# Altium schematic symbol library Schlib.SchLib: 32 symbols
Pins are listed as number, name and electrical type; pins without a type are passive.

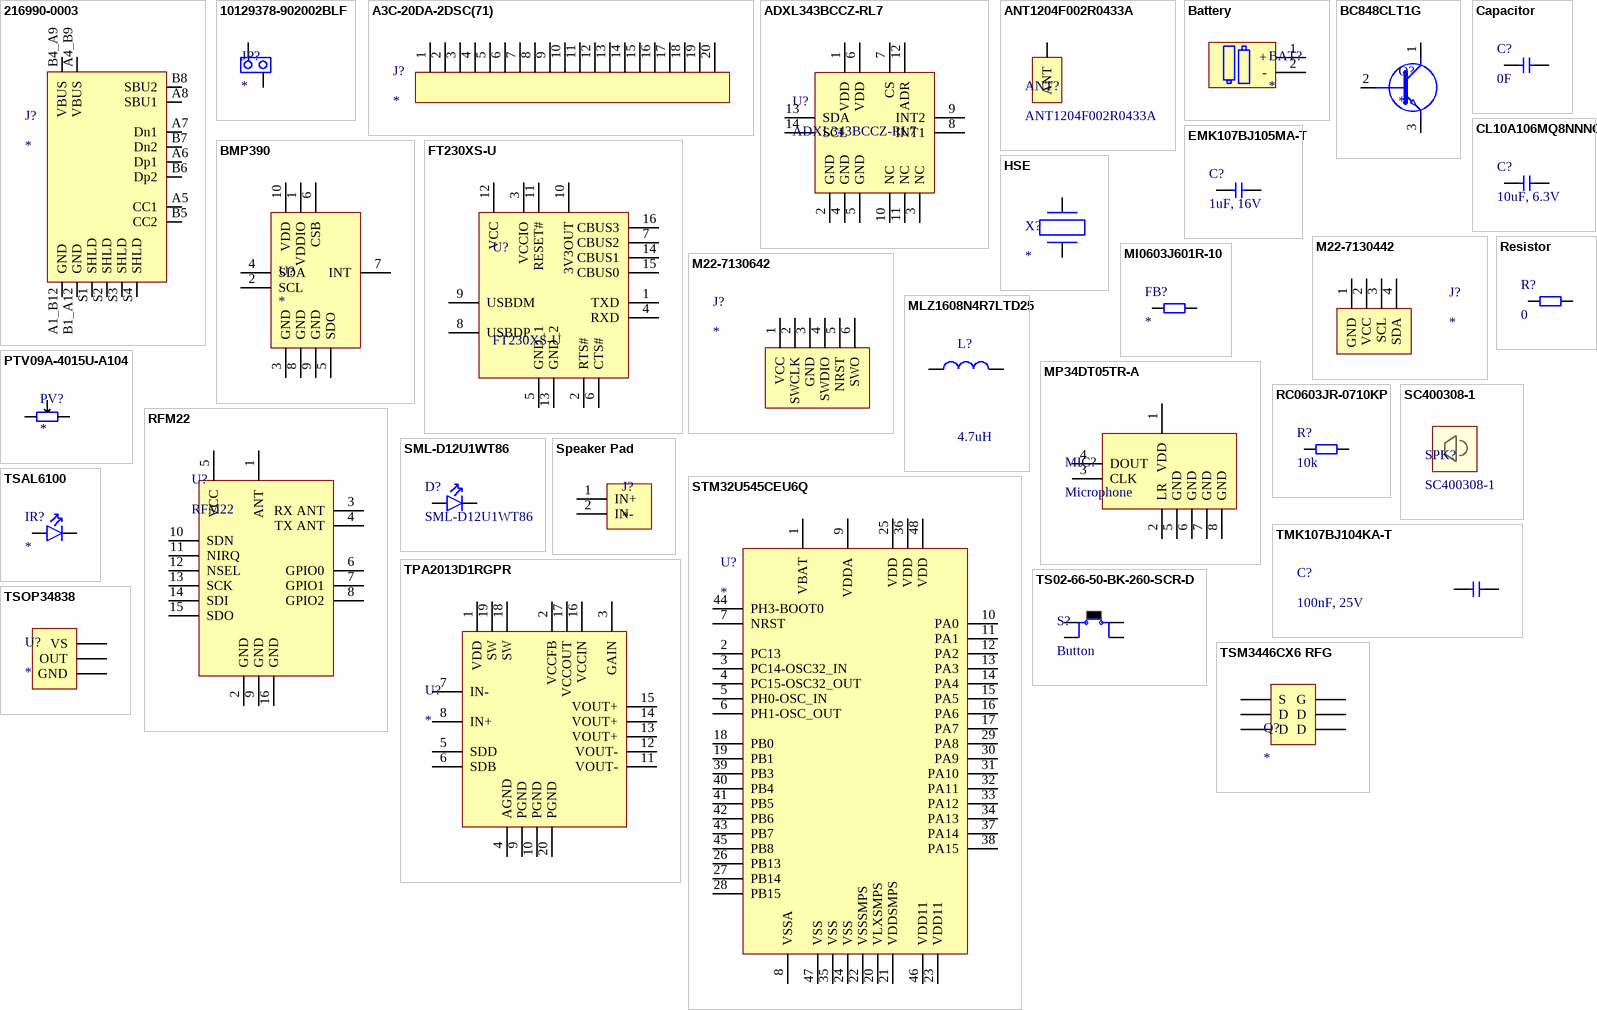
[diagram p0: symbols 216990-0003 to TSOP34838]

## 216990-0003
designator J?
USB Type C - Connector, Mid-mount, SMT, CH0.58, 16pos | Molex Incorporated 216990-0003; USB Standard: 6108USBStandard; Current Rating: 1.25A; Gender: 4472Gender; Number of Contacts: 16NUMBER; Voltage Rating: 30V; Supplier: Mouser; Supplier Part Number: 538-216990-0003; Manufacturer: Molex; Manufacturer Part Number: 216990-0003; RoHS: No; Category: Connectors; Stock: 8277; Pricing: 1=0,63, 10=0,524, 50=0,524, 100=0,44, 1000=0,44, 10000=0,44 (USD); Contact Material: 153,157ConductorMaterial; Min Operating Temperature: -40°C; Max Operating Temperature: 85°C
footprint MOLEX_2169900003
pins: A1_B12 GND, A4_B9 VBUS, A5 CC1, A6 Dp1, A7 Dn1, A8 SBU1, B1_A12 GND, B4_A9 VBUS, B5 CC2, B6 Dp2, B7 Dn2, B8 SBU2, S1 SHLD, S2 SHLD, S3 SHLD, S4 SHLD

## 10129378-902002BLF
designator JP?
Conn Unshrouded Header HDR 2 POS 2.54mm Solder ST Thru-Hole Poly Bag; Manufacturer: Amphenol ICC / FCI; Manufacturer Part Number: 10129378-902002BLF; Supplier: Mouser; Supplier Part Number: 649-1012937890202BLF; RoHS: No; Category: Connectors; Stock: 18569; Pricing: 1=0,1, 10=0,048, 50=0,048, 100=0,037, 1000=0,029, 10000=0,026 (USD); ComponentLink1URL: https://datasheet.octopart.com/10129378-902002BLF-Amphenol-ICC-datasheet-100454231.pdf?src-supplier=Newark; ComponentLink1Description: https://datasheet.octopart.com/10129378-902002BLF-Amphenol-ICC-datasheet-100454231.pdf?src-supplier=Newark
footprint 10129378902002BLF
pins: 1 16, 2 17

## A3C-20DA-2DSC(71)
designator J?
Board Connector; Manufacturer: Hirose; Manufacturer Part Number: A3C-20DA-2DSC(71); Supplier: Mouser; Supplier Part Number: 798-A3C-20DA-2DSC71; RoHS: Yes; Category: Connectors; Stock: 5726; Pricing: 1=2,14, 10=1,75, 50=1,75, 100=1,75, 1000=1,16, 10000=1,08 (USD); Connector Type: BOARD CONNECTOR; Manufacturer Series: A3C-20DA-2DSC(71); RoHS Compliant: Yes; ComponentLink1URL: https://datasheet.ciiva.com:443/pdfs/VipMasterIC/IC/HIRO/HIRO-S-A0008069061/HIRO-S-A0008410557-1.pdf?src-supplier=IHS+Markit; ComponentLink1Description: https://datasheet.ciiva.com:443/pdfs/VipMasterIC/IC/HIRO/HIRO-S-A0008069061/HIRO-S-A0008410557-1.pdf?src-supplier=IHS+Markit; ComponentLink2URL: https://datasheet.ciiva.com/16410/ed-a3-20130408-16410581.pdf?src-supplier=Future+Electronics; ComponentLink2Description: https://datasheet.ciiva.com/16410/ed-a3-20130408-16410581.pdf?src-supplier=Future+Electronics
footprint 20-wire (20-wire Connector)
pins: 1, 2, 3, 4, 5, 6, 7, 8, 9, 10, 11, 12, 13, 14, 15, 16, 17, 18, 19, 20

## ADXL343BCCZ-RL7
designator U?
Accelerometer Triple ±2/±4/±8/±16g 2V to 3.6V 14-Pin LGA T/R; Manufacturer: Analog Devices; Bandwidth: 0.05Hz; Interface: I2C,SPI; -3db Bandwidth: 320Hz; Output Type: Digital; Axis: X, Y, Z; Sensitivity: 256LSB/g; Supply Current: 140uA; Supplier: Mouser; Supplier Part Number: 584-ADXL343BCCZ-R7; Manufacturer Part Number: ADXL343BCCZ-RL7; RoHS: Yes; Category: Accelerometers; Stock: 30976; Pricing: 1=4,09, 10=2,7, 50=2,7, 100=2,62, 1000=2,1, 10000=1,96 (USD); Case/Package: LGA; Pins: 14; Contact Plating: Tin,Matte; Min Operating Temperature: -40°C; Max Operating Temperature: 85°C; Package Quantity: 1500; Max Supply Voltage: 3.6V; Min Supply Voltage: 2V; Packaging: Tape and Reel; Series: -; Lead Free: Contains Lead; RoHS Compliant: Yes; ComponentLink1URL: http://www.farnell.com/datasheets/2243358.pdf?src-supplier=Farnell; ComponentLink1Description: http://www.farnell.com/datasheets/2243358.pdf?src-supplier=Farnell; ComponentLink2URL: http://www.mouser.com/ds/2/609/ADXL343-879234.pdf?src-supplier=Mouser; ComponentLink2Description: http://www.mouser.com/ds/2/609/ADXL343-879234.pdf?src-supplier=Mouser; ComponentLink3URL: http://components.arrow.com/part/dataview/52586911S6181N2771?src-supplier=Arrow+Electronics; ComponentLink3Description: http://components.arrow.com/part/dataview/52586911S6181N2771?src-supplier=Arrow+Electronics; ComponentLink4URL: http://www.farnell.com/datasheets/2243358.pdf?src-supplier=Newark; ComponentLink4Description: http://www.farnell.com/datasheets/2243358.pdf?src-supplier=Newark; ComponentLink5URL: https://datasheet.octopart.com/ADXL343BCCZ-RL7-Analog-Devices-datasheet-165826994.pdf?src-supplier=Element14; ComponentLink5Description: https://datasheet.octopart.com/ADXL343BCCZ-RL7-Analog-Devices-datasheet-165826994.pdf?src-supplier=Element14; ComponentLink6URL: https://datasheet.octopart.com/ADXL343BCCZ-RL7-Analog-Devices-datasheet-78834203.pdf?src-supplier=Newark; ComponentLink6Description: https://datasheet.octopart.com/ADXL343BCCZ-RL7-Analog-Devices-datasheet-78834203.pdf?src-supplier=Newark; ComponentLink7URL: http://www.analog.com/static/imported-files/data_sheets/ADXL343.pdf?src-supplier=Avnet; ComponentLink7Description: http://www.analog.com/static/imported-files/data_sheets/ADXL343.pdf?src-supplier=Avnet
footprint PQFN80P300X500X100-14N
pins: 1 VDD, 2 GND, 3 NC, 4 GND, 5 GND, 6 VDD, 7 CS, 8 INT1, 9 INT2, 10 NC, 11 NC, 12 ADR, 13 SDA, 14 SCL

## ANT1204F002R0433A
designator ANT?
Antennas 433MHz 50 Ohm 1W CHIP ANTENNA; Manufacturer: Pulse; Supplier: Mouser; Supplier Part Number: 603-ANT1204F002R0433; Manufacturer Part Number: ANT1204F002R0433A; RoHS: No; Category: RF Antennas; Stock: 6367; Pricing: 1=1,03, 10=0,93, 50=0,93, 100=0,713, 1000=0,677, 10000=0,62 (USD); ComponentLink1URL: http://datasheet.octopart.com/ANT1204F002R0433A-Pulse-datasheet-159152890.pdf?src-supplier=Avnet; ComponentLink1Description: http://datasheet.octopart.com/ANT1204F002R0433A-Pulse-datasheet-159152890.pdf?src-supplier=Avnet; ComponentLink2URL: http://datasheet.octopart.com/ANT1204F002R0433A-Pulse-datasheet-159152890.pdf?src-supplier=Digikey; ComponentLink2Description: http://datasheet.octopart.com/ANT1204F002R0433A-Pulse-datasheet-159152890.pdf?src-supplier=Digikey; ComponentLink3URL: http://datasheet.octopart.com/ANT1204F002R0433A-Pulse-datasheet-159152890.pdf?src-supplier=Arrow+Electronics; ComponentLink3Description: http://datasheet.octopart.com/ANT1204F002R0433A-Pulse-datasheet-159152890.pdf?src-supplier=Arrow+Electronics; ComponentLink4URL: http://datasheet.octopart.com/ANT1204F002R0433A-Pulse-datasheet-159152890.pdf?src-supplier=Mouser; ComponentLink4Description: http://datasheet.octopart.com/ANT1204F002R0433A-Pulse-datasheet-159152890.pdf?src-supplier=Mouser; ComponentLink5URL: http://datasheet.octopart.com/ANT1204F002R0433A-Pulse-datasheet-159152890.pdf?src-supplier=Onlinecomponents.com; ComponentLink5Description: http://datasheet.octopart.com/ANT1204F002R0433A-Pulse-datasheet-159152890.pdf?src-supplier=Onlinecomponents.com; ComponentLink6URL: http://datasheet.octopart.com/ANT1204F002R0433A-Pulse-datasheet-159152890.pdf?src-supplier=Verical; ComponentLink6Description: http://datasheet.octopart.com/ANT1204F002R0433A-Pulse-datasheet-159152890.pdf?src-supplier=Verical; ComponentLink7URL: http://datasheet.octopart.com/ANT1204F002R0433A-Pulse-datasheet-159152890.pdf?src-supplier=TTI; ComponentLink7Description: http://datasheet.octopart.com/ANT1204F002R0433A-Pulse-datasheet-159152890.pdf?src-supplier=TTI; ComponentLink8URL: https://datasheet.octopart.com/ANT1204F002R0433A-Pulse-datasheet-159152890.pdf?src-supplier=Sager+Electronics; ComponentLink8Description: https://datasheet.octopart.com/ANT1204F002R0433A-Pulse-datasheet-159152890.pdf?src-supplier=Sager+Electronics; ComponentLink9URL: http://datasheet.octopart.com/ANT1204F002R0433A-Pulse-datasheet-159152890.pdf?src-supplier=Electro+Sonic; ComponentLink9Description: http://datasheet.octopart.com/ANT1204F002R0433A-Pulse-datasheet-159152890.pdf?src-supplier=Electro+Sonic
footprint CHIP_R0433A_YAG
pins: 1 ANT

## Battery
designator BAT?
footprint 2462
pins: 1 +, 2 -

## BC848CLT1G
designator Q?
Small Signal Bipolar Transistor, 0.1A I(C), 30V V(BR)CEO, 1-Element, NPN, Silicon, TO-236; Manufacturer: ON Semiconductor; Manufacturer Part Number: BC848CLT1G; Package Body Material: Plastic; Max Collector Current: 100mA; DC Current Gain-Min (hFE): 420; Number of Elements: 1; Power Dissipation-Max (Abs): 300mW; Time @ Peak Reflow Temperature-Max (s): 40s; Frequency: 100MHz; Qualification Status: Not Qualified; Supplier: Mouser; Supplier Part Number: 863-BC848CLT1G; RoHS: Yes; Category: BJTs; Stock: 105869; Pricing: 1=0,13, 10=0,08, 50=0,08, 100=0,05, 1000=0,032, 10000=0,02 (USD); Pins: 3; Package Shape: Rectangular; Terminal Finish: Tin; Transistor Element Material: SILICON; Max Operating Temperature: 150°C; JESD-609 Code: e3; Polarity/Channel Type: NPN; Collector-emitter Voltage-Max: 30V; JESD-30 Code: R-PDSO-G3; Moisture Sensitivity Level: 1; Package Style: SMALL OUTLINEMeter; Peak Reflow Temperature (Cel): 260°C; Surface Mount: Yes; Terminal Form: Gull Wing; Terminal Position: DUAL; JEDEC-95 Code: TO-236; Reach SVHC Compliant: Yes; RoHS Compliant: Yes; ComponentLink1URL: https://datasheet.ciiva.com:443/pdfs/VipMasterIC/IC/ONSM/ONSM-S-A0009451914/ONSM-S-A0009451914-1.pdf?src-supplier=IHS+Markit; ComponentLink1Description: https://datasheet.ciiva.com:443/pdfs/VipMasterIC/IC/ONSM/ONSM-S-A0009451914/ONSM-S-A0009451914-1.pdf?src-supplier=IHS+Markit; ComponentLink2URL: https://datasheet.ciiva.com/4722/bc846alt1-d-108909-4722112.pdf?src-supplier=Mouser; ComponentLink2Description: https://datasheet.ciiva.com/4722/bc846alt1-d-108909-4722112.pdf?src-supplier=Mouser; ComponentLink3URL: https://datasheet.ciiva.com/15138/getdatasheetpartid-68998-15138954.pdf?src-supplier=Verical; ComponentLink3Description: https://datasheet.ciiva.com/15138/getdatasheetpartid-68998-15138954.pdf?src-supplier=Verical; ComponentLink4URL: https://datasheet.ciiva.com/7971/bc846alt1-d-7971966.pdf?src-supplier=Element14; ComponentLink4Description: https://datasheet.ciiva.com/7971/bc846alt1-d-7971966.pdf?src-supplier=Element14; ComponentLink5URL: https://datasheet.ciiva.com/7971/bc846alt1-d-7971964.pdf?src-supplier=Element14; ComponentLink5Description: https://datasheet.ciiva.com/7971/bc846alt1-d-7971964.pdf?src-supplier=Element14; ComponentLink6URL: https://datasheet.ciiva.com/11202/bc846alt1-d-11202104.pdf?src-supplier=Avnet; ComponentLink6Description: https://datasheet.ciiva.com/11202/bc846alt1-d-11202104.pdf?src-supplier=Avnet; ComponentLink7URL: https://datasheet.ciiva.com/16351/bc846alt1-d-16351381.pdf?src-supplier=Future+Electronics; ComponentLink7Description: https://datasheet.ciiva.com/16351/bc846alt1-d-16351381.pdf?src-supplier=Future+Electronics
footprint SOT-23TO-236_318-08_ONS
pins: 1 C, 2 B, 3 E

## BMP390
designator U?
Board Mount Pressure Sensor 300hPa to 1250hPa Barometric 10-Pin LGA Module T/R; Manufacturer: Bosch Tools; Manufacturer Part Number: BMP390; Supplier: Mouser; Supplier Part Number: 262-BMP390; RoHS: No; Category: Linear ICs; Stock: 8779; Pricing: 1=2,77, 10=2,36, 50=2,36, 100=2,26, 1000=1,96, 10000=1,78 (USD)
footprint 10LGA_2X2X0p75_BOS
pins: 1 VDDIO, 2 SCL, 3 GND, 4 SDA, 5 SDO, 6 CSB, 7 INT, 8 GND, 9 GND, 10 VDD

## Capacitor
designator C?, comment 0F
No model capacitor
footprint CAPC1608X90N
pins: 1, 2

## CL10A106MQ8NNNC
designator C?, comment 10uF, 6.3V
Multilayer Ceramic Capacitor, 10 uF, 6.3 V, ± 20%, X5R, 0603 [1608 Metric]; Manufacturer: Samsung; Manufacturer Part Number: CL32B106KBJNNNF; Material: 4241ConductorMaterial; Tolerance: 10%; Dielectric: X7R; Voltage: 50V; Supplier: Mouser; Supplier Part Number: 187-CL32B106KBJNNNF; Category: Ceramic Capacitors; Stock: 26068; Pricing: 1=0,52, 10=0,281, 50=0,281, 100=0,181, 1000=0,154, 10000=0,124 (USD); Mounting Technology: Surface Mount; Case/Package: 1210; Min Operating Temperature: -55°C; Max Operating Temperature: 125°C; Value: 10uF; Voltage Rating (DC): 50V; Series: CL; Voltage Rating: 50V; Length: 3.2mm; Height: 2.5mm; Depth: 2.5mm; RoHS Compliant: Yes; RoHS: Yes; Case Code (Metric): 1608; Case Code (Imperial): 0603; Packaging: Tape and Reel; Construction: Flat; Radiation Hardening: No; ComponentLink1URL: https://datasheet.ciiva.com/25798/cl10a106mq8nnnc-25798320.pdf?src-supplier=Digikey; ComponentLink1Description: https://datasheet.ciiva.com/25798/cl10a106mq8nnnc-25798320.pdf?src-supplier=Digikey; ComponentLink2URL: https://datasheet.ciiva.com/26838/getdatasheetpartid-357557-26838347.pdf?src-supplier=Verical; ComponentLink2Description: https://datasheet.ciiva.com/26838/getdatasheetpartid-357557-26838347.pdf?src-supplier=Verical; ComponentLink3URL: https://datasheet.ciiva.com/16437/cl05b104kq5nnnc-16437327.pdf?src-supplier=Future+Electronics; ComponentLink3Description: https://datasheet.ciiva.com/16437/cl05b104kq5nnnc-16437327.pdf?src-supplier=Future+Electronics
footprint CAPC1608X90N
pins: 1, 2

## EMK107BJ105MA-T
designator C?, comment 1uF, 16V
Multilayer Ceramic Capacitors (High dielectric type), 16V, 1 uF, ± 20 %, 0603, X5R, RoHS; Manufacturer: Taiyo Yuden; Manufacturer Part Number: EMK107BJ105MA-T; Tolerance: 20%; Supplier: Mouser; Supplier Part Number: 963-EMK107BJ105MA-T; RoHS: Yes; Category: Ceramic Capacitors; Stock: 18439; Pricing: 1=0,1, 10=0,033, 50=0,033, 100=0,016, 1000=0,01, 10000=0,008 (USD); Mounting Technology: Surface Mount; Case/Package: 0603; Case Code (Imperial): 0603; Case Code (Metric): 1608; Weight: 7.1E-05oz; Min Operating Temperature: -55°C; Max Operating Temperature: 85°C; Value: 1uF; Voltage Rating (DC): 16V; Packaging: Tape and Reel; Dielectric: X5R; Termination: SMD/SMT; Voltage: 16V; Series: M; Construction: Flat; Length: 1.6mm; Width: 0.8mm; Height: 0.8mm; Depth: 0.8mm; Radiation Hardening: No; Lead Free: Lead Free; Halogen Free: Halogen Free; RoHS Compliant: Yes; ComponentLink1URL: https://datasheet.ciiva.com/11596/emk107bj105ma-t-ss-11596745.pdf?src-supplier=Avnet; ComponentLink1Description: https://datasheet.ciiva.com/11596/emk107bj105ma-t-ss-11596745.pdf?src-supplier=Avnet
footprint CAPC1608X90N
pins: 1, 2

## FT230XS-U
designator U?
USB Interface IC USB to Basic Serial UART IC SSOP-16; Manufacturer_Name: FTDI Chip; Geometry.Height: 1.753mm; Mouser Part Number: 895-FT230XS-U; Mouser Price/Stock: https://www.mouser.co.uk/ProductDetail/FTDI/FT230XS-U?qs=Gp1Yz1mis3UZolxbXux7lw%3D%3D; Manufacturer_Part_Number: FT230XS-U; Datasheet Link: https://www.ftdichip.com/Support/Documents/DataSheets/ICs/DS_FT230X.pdf
footprint SOP64P599X175-16N
pins: 1 TXD, 2 RTS#, 3 VCCIO, 4 RXD, 5 GND_1, 6 CTS#, 7 CBUS2, 8 USBDP, 9 USBDM, 10 3V3OUT, 11 RESET#, 12 VCC, 13 GND_2, 14 CBUS1, 15 CBUS0, 16 CBUS3

## HSE
designator X?
footprint HC49USMFF5F1873728MHZ
pins: 1, 2

## M22-7130442
designator J?
Board Connector, 4 Contact(s), 1 Row(s), Female, Straight, 0.079 inch Pitch, Solder Terminal, Black Insulator, Socket; Manufacturer: Harwin; Manufacturer Part Number: M22-7130442; Option: General Purpose; Additional Feature: ROHS COMPLIANT; Contact Pattern: RECTANGULAR; Contact Resistance: 20mR; Contact Style: SQ PIN-SKT; Dielectric Withstanding Voltage (AC): 500V; Filter Feature: No; Insertion Force-Max: 2.0016N; Insulation Resistance: 1GR; Number Of Connectors: 1; Rated Current (Signal): 1A; Number of Contacts: 4; Withdrawl Force-Min: 0.1946N; Body Breadth: 0.094inch; Body Depth: 0.173inch; Body Length: 0.315inch; Plating Thickness: 50uin; Reference Standard: UL; Reliability: COMMERCIAL; Supplier: Mouser; Supplier Part Number: 855-M22-7130442; RoHS: Yes; Category: Headers and Wire Housings; Stock: 1209; Pricing: 1=1,42, 10=1,2, 50=1,12, 100=1,08, 1000=0,885, 10000=0,688 (USD); Mounting Technology: Board; Contact Material: Bronze; Contact Finish - Mating: GOLD; Contact Finish - Termination: Tin (Sn); Insulation Color: Black; Insulation Material: Polymer; Min Operating Temperature: -40°C; Max Operating Temperature: 105°C; Connector Type: BOARD CONNECTOR; JESD-609 Code: e3; Body/Shell Style: SOCKET; Contact Gender: Female; Mixed Contacts: No; Mounting Style: STRAIGHT; Number Of PCB Rows: 1; Number of Rows Loaded: 1; PCB Contact Pattern: RECTANGULAR; Termination: Solder; Mating Contact Pitch: 0.079inch; Terminal Length: 0.102inch; Terminal Pitch: 2mm; Flammability Rating: UL94 V-0; DIN Conformance: No; IEC Conformance: No; MIL Conformance: No; Reach SVHC Compliant: Yes; RoHS Compliant: Yes; ComponentLink1URL: https://datasheet.ciiva.com:443/pdfs/VipMasterIC/IC/HRWN/HRWN-S-A0002541722/HRWN-S-A0004894629-1.pdf?src-supplier=IHS+Markit; ComponentLink1Description: https://datasheet.ciiva.com:443/pdfs/VipMasterIC/IC/HRWN/HRWN-S-A0002541722/HRWN-S-A0004894629-1.pdf?src-supplier=IHS+Markit; ComponentLink2URL: https://datasheet.ciiva.com/11747/0900766b80da60bb-11747426.pdf?src-supplier=Rs; ComponentLink2Description: https://datasheet.ciiva.com/11747/0900766b80da60bb-11747426.pdf?src-supplier=Rs; ComponentLink3URL: https://datasheet.ciiva.com/23592/1693768-23592608.pdf?src-supplier=Newark; ComponentLink3Description: https://datasheet.ciiva.com/23592/1693768-23592608.pdf?src-supplier=Newark; ComponentLink4URL: https://datasheet.ciiva.com/411/m22-713-411291.pdf?src-supplier=Digikey; ComponentLink4Description: https://datasheet.ciiva.com/411/m22-713-411291.pdf?src-supplier=Digikey
footprint 4-wire (4-wire Connector)
pins: 1 GND, 2 VCC, 3 SCL, 4 SDA

## M22-7130642
designator J?
Board Connector, 6 Contact(s), 1 Row(s), Female, Straight, 0.079 inch Pitch, Solder Terminal, Black Insulator, Socket; Manufacturer: Harwin; Manufacturer Part Number: M22-7130642; Option: General Purpose; Additional Feature: ROHS COMPLIANT; Contact Pattern: RECTANGULAR; Contact Resistance: 20mR; Contact Style: SQ PIN-SKT; Dielectric Withstanding Voltage (AC): 500V; Filter Feature: No; Insertion Force-Max: 2.0016N; Insulation Resistance: 1GR; Number Of Connectors: 1; Rated Current (Signal): 1A; Number of Contacts: 6; Withdrawl Force-Min: 0.1946N; Body Breadth: 0.094inch; Body Depth: 0.173inch; Body Length: 0.472inch; Plating Thickness: 50uin; Reference Standard: UL; Reliability: COMMERCIAL; Supplier: Mouser; Supplier Part Number: 855-M22-7130642; RoHS: Yes; Category: Headers and Wire Housings; Stock: 982; Pricing: 1=1,32, 10=1,26, 50=0,877, 100=0,824, 1000=0,747, 10000=0,638 (USD); Mounting Technology: Board; Contact Material: Bronze; Contact Finish - Mating: GOLD; Contact Finish - Termination: Tin (Sn) - with Nickel (Ni) barrier; Insulation Color: Black; Insulation Material: Polymer; Min Operating Temperature: -40°C; Max Operating Temperature: 105°C; Connector Type: BOARD CONNECTOR; JESD-609 Code: e3; Body/Shell Style: SOCKET; Contact Gender: Female; Mixed Contacts: No; Mounting Style: STRAIGHT; Number Of PCB Rows: 1; Number of Rows Loaded: 1; PCB Contact Pattern: RECTANGULAR; Termination: Solder; Mating Contact Pitch: 0.079inch; Terminal Length: 0.102inch; Terminal Pitch: 2mm; Flammability Rating: UL94 V-0; DIN Conformance: No; IEC Conformance: No; MIL Conformance: No; Reach SVHC Compliant: Yes; RoHS Compliant: Yes; ComponentLink1URL: https://datasheet.ciiva.com:443/pdfs/VipMasterIC/IC/HRWN/HRWN-S-A0002541722/HRWN-S-A0004894629-1.pdf?src-supplier=IHS+Markit; ComponentLink1Description: https://datasheet.ciiva.com:443/pdfs/VipMasterIC/IC/HRWN/HRWN-S-A0002541722/HRWN-S-A0004894629-1.pdf?src-supplier=IHS+Markit; ComponentLink2URL: https://datasheet.ciiva.com/11746/0900766b80f0800f-11746972.pdf?src-supplier=Rs; ComponentLink2Description: https://datasheet.ciiva.com/11746/0900766b80f0800f-11746972.pdf?src-supplier=Rs; ComponentLink3URL: https://datasheet.ciiva.com/23592/27454-23592801.pdf?src-supplier=Newark; ComponentLink3Description: https://datasheet.ciiva.com/23592/27454-23592801.pdf?src-supplier=Newark; ComponentLink4URL: https://datasheet.ciiva.com/8046/27454-8046967.pdf?src-supplier=Element14; ComponentLink4Description: https://datasheet.ciiva.com/8046/27454-8046967.pdf?src-supplier=Element14; ComponentLink5URL: https://datasheet.ciiva.com/411/m22-713-411295.pdf?src-supplier=Digikey; ComponentLink5Description: https://datasheet.ciiva.com/411/m22-713-411295.pdf?src-supplier=Digikey
footprint 6-wire (6-wire Connector)
pins: 1 VCC, 2 SWCLK, 3 GND, 4 SWDIO, 5 NRST, 6 SWO

## MI0603J601R-10
designator FB?
Ferrite Chip, 1 Function(s), 1A, 2 Pin(s); Manufacturer: Laird; Manufacturer Part Number: MI0603J601R-10; Manufacturer Series: MI0603J601R; DC Resistance-Max: 200mR; Clock Frequency: 100MHz; Channels: 1; Output Impedance: 600R; Supplier: Mouser; Supplier Part Number: 875-MI0603J601R-10; RoHS: Yes; Category: Ferrite Beads and Chips; Stock: 117417; Pricing: 1=0,12, 10=0,072, 50=0,072, 100=0,05, 1000=0,029, 10000=0,027 (USD); Mounting Technology: Surface Mount; Material: Ferrite; Case Code: 0603; Terminal Finish: Tin; Min Operating Temperature: -55°C; Max Operating Temperature: 125°C; JESD-609 Code: e3; Construction: Chip Bead; Filter Type: FERRITE CHIP; Min Frequency: 100MHz; Packaging: Tape and Reel; Current Rating: 1A; Series: MI0603J601R-10; Length: 1.6mm; Width: 0.8mm; Height: 0.8mm; RoHS Compliant: Yes; ComponentLink1URL: https://datasheet.ciiva.com:443/pdfs/VipMasterIC/IC/STWD/STWDS00461/STWDS00461-1.pdf?src-supplier=IHS+Markit; ComponentLink1Description: https://datasheet.ciiva.com:443/pdfs/VipMasterIC/IC/STWD/STWDS00461/STWDS00461-1.pdf?src-supplier=IHS+Markit; ComponentLink2URL: http://www.farnell.com/datasheets/1685984.pdf?src-supplier=Farnell; ComponentLink2Description: http://www.farnell.com/datasheets/1685984.pdf?src-supplier=Farnell; ComponentLink3URL: https://assets.lairdtech.com/home/brandworld/files/MI0603J601R-10.pdf?src-supplier=Digikey; ComponentLink3Description: https://assets.lairdtech.com/home/brandworld/files/MI0603J601R-10.pdf?src-supplier=Digikey; ComponentLink4URL: http://staging.lairdtech.com/WorkArea/linkit.aspx?LinkIdentifier=id&ItemID=5721&src-supplier=Mouser; ComponentLink4Description: http://staging.lairdtech.com/WorkArea/linkit.aspx?LinkIdentifier=id&ItemID=5721&src-supplier=Mouser
footprint RESC1608X55N
pins: 1, 2

## MLZ1608N4R7LTD25
designator L?, comment 4.7uH
SMD / SMT Inductors (Coils), L=4.7?H, L x W x T :; Manufacturer_Name: TDK; Manufacturer_Part_Number: MLZ1608N4R7LTD25; Geometry.Height: 0.95mm; Mouser Part Number: 810-MLZ1608N4R7LTD25; Mouser Price/Stock: https://www.mouser.com/Search/Refine.aspx?Keyword=810-MLZ1608N4R7LTD25; Datasheet Link: https://componentsearchengine.com/Datasheets/1/MLZ1608N4R7LTD25.pdf
footprint RESC1608X55N
pins: 1, 2

## MP34DT05TR-A
designator MIC?, comment Microphone
Consumer Circuit, CMOS, CBGA4; Manufacturer: STMicroelectronics; Manufacturer Part Number: MP34DT05TR-A; Package Body Material: Metal; Channels: 1; Max Supply Voltage: 3.6V; Min Supply Voltage: 1.6V; Supplier: Mouser; Supplier Part Number: 511-MP34DT05TR-A; RoHS: Yes; Category: Microphones; Stock: 14413; Pricing: 1=1,64, 10=1,37, 50=1,19, 100=1,12, 1000=0,904, 10000=0,876 (USD); Case/Package: LGA; Pins: 4; Package Shape: Rectangular; Terminal Finish: Nickel; Min Operating Temperature: -40°C; Max Operating Temperature: 85°C; JESD-609 Code: e4; Consumer IC Type: CONSUMER CIRCUIT; Moisture Sensitivity Level: 3; Package Style: GRID ARRAYMeter; Surface Mount: Yes; Technology: CMOS; Terminal Form: BUTT; Terminal Position: BOTTOM; Length: 4mm; Width: 3mm; Height - Seated (Max): 1.1mm; Temperature Grade: INDUSTRIAL; Reach SVHC Compliant: Yes; RoHS Compliant: Yes; ComponentLink1URL: https://datasheet.ciiva.com:443/pdfs/VipMasterIC/IC/SGST/SGST-S-A0008042494/SGST-S-A0008042494-1.pdf?src-supplier=IHS+Markit; ComponentLink1Description: https://datasheet.ciiva.com:443/pdfs/VipMasterIC/IC/SGST/SGST-S-A0008042494/SGST-S-A0008042494-1.pdf?src-supplier=IHS+Markit; ComponentLink2URL: http://www.farnell.com/datasheets/2600073.pdf?src-supplier=Farnell; ComponentLink2Description: http://www.farnell.com/datasheets/2600073.pdf?src-supplier=Farnell; ComponentLink3URL: http://www.st.com/content/ccc/resource/technical/document/datasheet/group3/c7/90/d3/f6/b7/e7/40/c8/DM00415595/files/DM00415595.pdf/jcr:content/translations/en.DM00415595.pdf?src-supplier=Digikey; ComponentLink3Description: http://www.st.com/content/ccc/resource/technical/document/datasheet/group3/c7/90/d3/f6/b7/e7/40/c8/DM00415595/files/DM00415595.pdf/jcr:content/translations/en.DM00415595.pdf?src-supplier=Digikey
footprint MP34DT05TRA
pins: 1 VDD, 2 LR, 3 CLK, 4 DOUT, 5 GND, 6 GND, 7 GND, 8 GND

## PTV09A-4015U-A104
designator PV?
Potentiometer, Carbon, 0.05W, 100000ohm, 20V, 20% +/-Tol, 1 Turn(s); Manufacturer: Bourns; Manufacturer Part Number: PTV09A-4015U-A104; Power: 50mW; Value: 100kR; Rotational Angle: 280°; Package Height: 7.5mm; Package Length: 9.8mm; Package Width: 12mm; Supplier: Mouser; Supplier Part Number: 652-PTV09A-4015UA104; RoHS: Yes; Stock: 1316; Pricing: 1=0,86, 10=0,653, 50=0,653, 100=0,574, 1000=0,453, 10000=0,423 (USD); Case/Package: 3947; Min Operating Temperature: -10°C; Max Operating Temperature: 50°C; Tolerance: 20%; Resistor Type: Potentiometer; Construction: SQUARE; Technology: CARBON; Working Voltage: 20V; Reach SVHC Compliant: Yes; RoHS Compliant: Yes; ComponentLink1URL: https://datasheet.ciiva.com:443/pdfs/VipMasterIC/IC/BOUR/BOUR-S-A0000201073/BOUR-S-A0000201073-1.pdf?src-supplier=IHS+Markit; ComponentLink1Description: https://datasheet.ciiva.com:443/pdfs/VipMasterIC/IC/BOUR/BOUR-S-A0000201073/BOUR-S-A0000201073-1.pdf?src-supplier=IHS+Markit; ComponentLink2URL: http://www.bourns.com/docs/Product-Datasheets/PTV09.pdf?src-supplier=Digikey; ComponentLink2Description: http://www.bourns.com/docs/Product-Datasheets/PTV09.pdf?src-supplier=Digikey
footprint PTV09A-4015U-A104
pins: 1, 2, 3

## RC0603JR-0710KP
designator R?, comment 10k
Thick Film Resistors - SMD 10 kOhms 100 mW 0603 5%; Manufacturer: Yageo; Manufacturer Part Number: RC0603JR-0710KP; Value: 10kR; Max Power Dissipation: 100mW; Temperature Coefficient: 150ppm/°C; Supplier: Mouser; Supplier Part Number: 603-RC0603JR-0710KP; RoHS: Yes; Category: Chip SMD Resistors; Stock: 47636; Pricing: 1=0,1, 10=0,017, 50=0,017, 100=0,01, 1000=0,008, 10000=0,004 (USD); Case/Package: 0603; Case Code (Metric): 1608; Case Code (Imperial): 0603; Min Operating Temperature: -55°C; Max Operating Temperature: 155°C; Packaging: Cut Tape; Number of Terminations: 2; Tolerance: 5%; Features: Moisture Resistant; Series: RC-P Lead Free; Length: 0.063inch; Width: 0.031inch; Height: 0.022inch; RoHS Compliant: Yes; ComponentLink1URL: http://www.yageo.com/NewPortal/yageodocoutput?fileName=/pdf/R-Chip/PYu-RC_51_RoHS_P_0.pdf&src-supplier=Digikey; ComponentLink1Description: http://www.yageo.com/NewPortal/yageodocoutput?fileName=/pdf/R-Chip/PYu-RC_51_RoHS_P_0.pdf&src-supplier=Digikey
footprint RESC1608X55N
pins: 1, 2

## Resistor
designator R?, comment 0
No model resistor
footprint RESC1608X55N
pins: 1, 2

## RFM22
designator U?
ISM transceiver module 1.8-3.6V 240-930MHz +17dBm; ComponentLink1Description: Datasheet; ComponentLink1URL: https://www.sparkfun.com/datasheets/Wireless/General/RFM22.PDF
footprint RFM22B-S2_HRF
pins: 1 ANT, 2 GND, 3 RX ANT, 4 TX ANT, 5 VCC, 6 GPIO0, 7 GPIO1, 8 GPIO2, 9 GND, 10 SDN, 11 NIRQ, 12 NSEL, 13 SCK, 14 SDI, 15 SDO, 16 GND

## SC400308-1
designator SPK?
SC Series 2 W 8 O 20 kHz Rectangular Frame Mount Dynamic Speaker; Manufacturer: DB Unlimited; Supplier: Mouser; Supplier Part Number: 497-SC400308-1; Manufacturer Part Number: SC400308-1; RoHS: No; Stock: 575; Pricing: 1=3,42, 10=2,79, 50=2,31, 100=2,11, 1000=1,87, 10000=1,87 (USD); ComponentLink1URL: http://dbunlimitedco.com/images/product_images/2D-Drawings/SC400308-1.pdf?src-supplier=Digikey; ComponentLink1Description: http://dbunlimitedco.com/images/product_images/2D-Drawings/SC400308-1.pdf?src-supplier=Digikey
footprint SC400308

## SML-D12U1WT86
designator D?
Single Color LED, Red, Milky White, 1.2mm; Manufacturer: Rohm; Shape: Rectangular; Forward Current: 20mA; Luminous Intensity-Nom: 63mcd; Channels: 1; Overall Height: 0.55mm; Supplier: Mouser; Supplier Part Number: 755-SML-D12U1WT86; Manufacturer Part Number: SML-D12U1WT86; RoHS: Yes; Category: LEDs; Stock: 58955; Pricing: 1=0,19, 10=0,102, 50=0,102, 100=0,044, 1000=0,037, 10000=0,026 (USD); Mounting Technology: Surface Mount; Pins: 2; Color: Red; Min Operating Temperature: -40°C; Max Operating Temperature: 85°C; Lens Style: MILKY WHITE; Optoelectronic Device Type: SINGLE COLOR LED; Packaging: Tape and Reel; Size: 1.2mm; Terminal Pitch: 1.65mm; Reach SVHC Compliant: Yes; RoHS Compliant: Yes; ComponentLink1URL: https://datasheet.ciiva.com:443/pdfs/VipMasterIC/IC/ROHM/ROHM-S-A0002134492/ROHM-S-A0002134492-1.pdf?src-supplier=IHS+Markit; ComponentLink1Description: https://datasheet.ciiva.com:443/pdfs/VipMasterIC/IC/ROHM/ROHM-S-A0002134492/ROHM-S-A0002134492-1.pdf?src-supplier=IHS+Markit; ComponentLink2URL: https://www.rohm.com/datasheet/SML-D12U1W?src-supplier=Digikey; ComponentLink2Description: https://www.rohm.com/datasheet/SML-D12U1W?src-supplier=Digikey; ComponentLink3URL: https://datasheet.octopart.com/SML-D12U1WT86-Rohm-datasheet-68298509.pdf?src-supplier=Future+Electronics; ComponentLink3Description: https://datasheet.octopart.com/SML-D12U1WT86-Rohm-datasheet-68298509.pdf?src-supplier=Future+Electronics; ComponentLink4URL: https://datasheet.octopart.com/SML-D12U1WT86-ROHM-datasheet-142144710.pdf?src-supplier=TME; ComponentLink4Description: https://datasheet.octopart.com/SML-D12U1WT86-ROHM-datasheet-142144710.pdf?src-supplier=TME
footprint LEDC1608X65N
pins: 1 3, 2 4

## Speaker Pad
designator J?
footprint Pad
pins: 1 IN+, 2 IN-

## STM32U545CEU6Q
designator U?
MCU 32-bit ARM Cortex M33 RISC 512KB Flash 1.8V/2.5V/3.3V 48-Pin UFQFPN EP Tray; Manufacturer: STMicroelectronics; Manufacturer Part Number: STM32U545CEU6Q; Supplier: Mouser; Supplier Part Number: 511-STM32U545CEU6Q; RoHS: No; Category: Microcontrollers; Stock: 1061; Pricing: 1=6,6, 10=5,96, 50=5,69, 100=4,94, 1000=3,75, 10000=3,75 (USD); ComponentLink1Description: SMPS Connection; ComponentLink1URL: https://community.st.com/t5/stm32-mcus/how-do-i-connect-the-stm32-s-smps-switched-mode-power-supply/ta-p/49590
footprint UFQFPN-48_STM
pins: 1 VBAT, 2 PC13, 3 PC14-OSC32_IN, 4 PC15-OSC32_OUT, 5 PH0-OSC_IN, 6 PH1-OSC_OUT, 7 NRST, 8 VSSA, 9 VDDA, 10 PA0, 11 PA1, 12 PA2, 13 PA3, 14 PA4, 15 PA5, 16 PA6, 17 PA7, 18 PB0, 19 PB1, 20 VLXSMPS, 21 VDDSMPS, 22 VSSSMPS, 23 VDD11, 24 VSS, 25 VDD, 26 PB13, 27 PB14, 28 PB15, 29 PA8, 30 PA9, 31 PA10, 32 PA11, 33 PA12, 34 PA13, 35 VSS, 36 VDD, 37 PA14, 38 PA15, 39 PB3, 40 PB4, 41 PB5, 42 PB6, 43 PB7, 44 PH3-BOOT0, 45 PB8, 46 VDD11, 47 VSS, 48 VDD

## TMK107BJ104KA-T
designator C?, comment 100nF, 25V
Multilayer Ceramic Capacitors MLCC - SMD/SMT 25V 0.1uF X5R 0603 10 %; Manufacturer: Samsung; Manufacturer Part Number: CL10B104JB8NNND; Dielectric: X7R; Voltage Rating (DC): 50V; Tolerance: 5%; Supplier: Mouser; Supplier Part Number: 187-CL10B104JB8NNND; RoHS: Yes; Category: Ceramic Capacitors; Stock: 98593; Pricing: 1=0,1, 10=0,018, 50=0,018, 100=0,017, 1000=0,01, 10000=0,005 (USD); Case/Package: 0603; Value: 100nF; RoHS Compliant: Yes; ComponentLink1URL: https://datasheet.octopart.com/TMK107BJ104KA-T-Taiyo-Yuden-datasheet-120265.pdf?src-supplier=Digikey; ComponentLink1Description: https://datasheet.octopart.com/TMK107BJ104KA-T-Taiyo-Yuden-datasheet-120265.pdf?src-supplier=Digikey
footprint CAPC1608X90N
pins: 1, 2

## TPA2013D1RGPR
designator U?
Audio Amplifier, 2.7W, 2 Channel(s), 1 Func, PQCC20; Manufacturer: Texas Instruments; Manufacturer Part Number: TPA2013D1RGPR; Package Body Material: Plastic; Number of Channels: 2; Channels: 1; Power Supplies: 2.5V; Max Supply Current: 6mA; Max Supply Voltage: 5.5V; Min Supply Voltage: 1.8V; Qualification Status: Not Qualified; Supplier: Mouser; Supplier Part Number: 595-TPA2013D1RGPR; RoHS: Yes; Category: Amplifiers - Audio; Stock: 15961; Pricing: 1=1,25, 10=1,11, 50=1,11, 100=0,94, 1000=0,739, 10000=0,531 (USD); Case/Package: HVQCCN; Pins: 20; Package Shape: Square; Terminal Finish: Nickel; Min Operating Temperature: -40°C; Max Operating Temperature: 85°C; JESD-609 Code: e4; Consumer IC Type: AUDIO AMPLIFIER; Moisture Sensitivity Level: 3; Output Power-Nom: 2.7W; Package Style: CHIP CARRIER, HEAT SINK/SLUG, VERY THIN PROFILEMeter; Peak Reflow Temperature (Cel): 260°C; Surface Mount: Yes; Terminal Form: No Lead; Terminal Position: QUAD; Length: 4mm; Width: 4mm; Height - Seated (Max): 1mm; Terminal Pitch: 0.5mm; Temperature Grade: INDUSTRIAL; RoHS Compliant: Yes; Reach SVHC Compliant: Yes; ComponentLink1URL: https://www.ti.com:443/lit/ds/symlink/tpa2013d1.pdf?src-supplier=IHS+Markit; ComponentLink1Description: https://www.ti.com:443/lit/ds/symlink/tpa2013d1.pdf?src-supplier=IHS+Markit; ComponentLink2URL: https://datasheet.ciiva.com/4767/slos520-122214-4767234.pdf?src-supplier=Mouser; ComponentLink2Description: https://datasheet.ciiva.com/4767/slos520-122214-4767234.pdf?src-supplier=Mouser; ComponentLink3URL: https://datasheet.ciiva.com/2967/tpa2013d1-2967857.pdf?src-supplier=Avnet; ComponentLink3Description: https://datasheet.ciiva.com/2967/tpa2013d1-2967857.pdf?src-supplier=Avnet; ComponentLink4URL: https://datasheet.ciiva.com/23806/1716606-23806566.pdf?src-supplier=Newark; ComponentLink4Description: https://datasheet.ciiva.com/23806/1716606-23806566.pdf?src-supplier=Newark; ComponentLink5URL: https://datasheet.ciiva.com/15131/getdatasheetpartid-172140-15131746.pdf?src-supplier=Verical; ComponentLink5Description: https://datasheet.ciiva.com/15131/getdatasheetpartid-172140-15131746.pdf?src-supplier=Verical; ComponentLink6URL: https://datasheet.ciiva.com/2968/tpa2013d1-2968137.pdf?src-supplier=Avnet; ComponentLink6Description: https://datasheet.ciiva.com/2968/tpa2013d1-2968137.pdf?src-supplier=Avnet; ComponentLink7URL: https://datasheet.ciiva.com/22654/1885891-22654842.pdf?src-supplier=Element14; ComponentLink7Description: https://datasheet.ciiva.com/22654/1885891-22654842.pdf?src-supplier=Element14; ComponentLink8URL: https://datasheet.ciiva.com/1789/tpa2013d1-1789061.pdf?src-supplier=Digikey; ComponentLink8Description: https://datasheet.ciiva.com/1789/tpa2013d1-1789061.pdf?src-supplier=Digikey; ComponentLink9URL: https://datasheet.ciiva.com/1789/tpa2013d1-1789062.pdf?src-supplier=Digikey; ComponentLink9Description: https://datasheet.ciiva.com/1789/tpa2013d1-1789062.pdf?src-supplier=Digikey; ComponentLink10URL: https://datasheet.ciiva.com/1789/tpa2013d1-1789063.pdf?src-supplier=Digikey; ComponentLink10Description: https://datasheet.ciiva.com/1789/tpa2013d1-1789063.pdf?src-supplier=Digikey
footprint QFN50P400X400X100-21N-D
pins: 1 VDD, 2 VCCFB, 3 GAIN, 4 AGND, 5 SDD, 6 SDB, 7 IN-, 8 IN+, 9 PGND, 10 PGND, 11 VOUT-, 12 VOUT-, 13 VOUT+, 14 VOUT+, 15 VOUT+, 16 VCCIN, 17 VCCOUT, 18 SW, 19 SW, 20 PGND

## TS02-66-50-BK-260-SCR-D
designator S?, comment Button
Switch Tactile OFF (ON) SPST Round Button PC Pins 0.05A 12VDC 60000Cycles 2.6N Thru-Hole Bag; Manufacturer: CUI Devices; Manufacturer Part Number: TS02-66-50-BK-260-SCR-D; Supplier: Mouser; Supplier Part Number: 179-TS026650BK260SCR; RoHS: No; Category: Tactile Switches; Stock: 2413; Pricing: 1=0,1, 10=0,062, 50=0,062, 100=0,054, 1000=0,042, 10000=0,041 (USD)
footprint TS026650BK260SCRD
pins: 1, 2, 3, 4

## TSAL6100
designator IR?
λP=940nm VF=1.35V; Manufacturer: Vishay; Manufacturer Part Number: TSAL6100; Supplier: Mouser; Supplier Part Number: 782-TSAL6100; RoHS: No; Category: LEDs; Stock: 23278; Pricing: 1=0,39, 10=0,24, 50=0,24, 100=0,139, 1000=0,123, 10000=0,12 (USD); ComponentLink1URL: https://datasheet.ciiva.com/11769/0900766b80e1b0e6-11769888.pdf?src-supplier=Rs; ComponentLink1Description: https://datasheet.ciiva.com/11769/0900766b80e1b0e6-11769888.pdf?src-supplier=Rs; ComponentLink2URL: https://datasheet.ciiva.com/16397/tsal6100-16397738.pdf?src-supplier=Future+Electronics; ComponentLink2Description: https://datasheet.ciiva.com/16397/tsal6100-16397738.pdf?src-supplier=Future+Electronics
footprint TSAL
pins: 1 3, 2 4

## TSM3446CX6 RFG
designator Q?
20V, 5.3A, Single N-Channel Power MOSFET; Manufacturer: Taiwan Semiconductor; Manufacturer Part Number: TSM3446CX6 RFG; Supplier: Mouser; Supplier Part Number: 821-TSM3446CX6RFG; Stock: 5369; Pricing: 1=0,15, 10=0,13, 50=0,13, 100=0,125, 1000=0,125, 10000=0,125 (USD); ComponentLink1URL: https://datasheet.ciiva.com:443/pdfs/VipMasterIC/IC/TWSC/TWSC-S-A0001064014/TWSC-S-A0001064014-1.pdf?src-supplier=IHS+Markit; ComponentLink1Description: https://datasheet.ciiva.com:443/pdfs/VipMasterIC/IC/TWSC/TWSC-S-A0001064014/TWSC-S-A0001064014-1.pdf?src-supplier=IHS+Markit; ComponentLink2URL: http://www.taiwansemi.com/products/datasheet/TSM3446_E15.pdf?src-supplier=Digikey; ComponentLink2Description: http://www.taiwansemi.com/products/datasheet/TSM3446_E15.pdf?src-supplier=Digikey; ComponentLink3URL: https://datasheet.octopart.com/TSM3446CX6-RFG-Taiwan-Semiconductor-datasheet-14717451.pdf?src-supplier=Element14; ComponentLink3Description: https://datasheet.octopart.com/TSM3446CX6-RFG-Taiwan-Semiconductor-datasheet-14717451.pdf?src-supplier=Element14
footprint TRANS_TSM3446CX6_RFG
pins: 1 S, 2 D, 3 D, 4 G, 5 D, 6 D

## TSOP34838
designator U?
Logic Output Photo IC; Manufacturer: Vishay; Manufacturer Part Number: TSOP34838; Shape: Round; Application(s): REMOTE CONTROL; Infrared Range: Yes; Channels: 1; On-State Current-Max: 5mA; Min Supply Voltage: 2.5V; Supplier: Mouser; Supplier Part Number: 782-TSOP34838; RoHS: Yes; Category: Optical Sensors; Stock: 10444; Pricing: 1=0,63, 10=0,462, 50=0,462, 100=0,441, 1000=0,428, 10000=0,425 (USD); Terminal Finish: Tin; Min Operating Temperature: -25°C; Max Operating Temperature: 85°C; JESD-609 Code: e3; Optoelectronic Device Type: LOGIC OUTPUT PHOTO IC; Size: 5mm; RoHS Compliant: Yes; ComponentLink1URL: https://datasheet.ciiva.com:443/pdfs/VipMasterIC/IC/VSMI/VSMIS33601/VSMIS33601-1.pdf?src-supplier=IHS+Markit; ComponentLink1Description: https://datasheet.ciiva.com:443/pdfs/VipMasterIC/IC/VSMI/VSMIS33601/VSMIS33601-1.pdf?src-supplier=IHS+Markit; ComponentLink2URL: https://datasheet.ciiva.com/1235/tsop348xx-1235248.pdf?src-supplier=Element14; ComponentLink2Description: https://datasheet.ciiva.com/1235/tsop348xx-1235248.pdf?src-supplier=Element14; ComponentLink3URL: https://datasheet.ciiva.com/1235/1699654-1235025.pdf?src-supplier=Element14; ComponentLink3Description: https://datasheet.ciiva.com/1235/1699654-1235025.pdf?src-supplier=Element14; ComponentLink4URL: https://datasheet.ciiva.com/11770/0900766b80dd0627-11770107.pdf?src-supplier=Rs; ComponentLink4Description: https://datasheet.ciiva.com/11770/0900766b80dd0627-11770107.pdf?src-supplier=Rs; ComponentLink5URL: https://datasheet.ciiva.com/2821/tsop322-2821296.pdf?src-supplier=Digikey; ComponentLink5Description: https://datasheet.ciiva.com/2821/tsop322-2821296.pdf?src-supplier=Digikey; ComponentLink6URL: https://datasheet.ciiva.com/1238/tsop348xx-1238483.pdf?src-supplier=Farnell; ComponentLink6Description: https://datasheet.ciiva.com/1238/tsop348xx-1238483.pdf?src-supplier=Farnell; ComponentLink7URL: https://datasheet.ciiva.com/3150/tsop322-3150886.pdf?src-supplier=Avnet; ComponentLink7Description: https://datasheet.ciiva.com/3150/tsop322-3150886.pdf?src-supplier=Avnet; ComponentLink8URL: https://datasheet.ciiva.com/16513/tsop322-16513770.pdf?src-supplier=Future+Electronics; ComponentLink8Description: https://datasheet.ciiva.com/16513/tsop322-16513770.pdf?src-supplier=Future+Electronics
footprint TO_TSOP31236_VIS
pins: 1 OUT, 2 GND, 3 VS